# Altium footprint library lib_cui.PcbLib: 4 footprints
Each footprint in its own frame and in the unit in brackets; x right, y up, seen from the top. Pads: shape width x height; smd on the part's side, far side on the other; paste and mask are expansions set on the pad; w line width, h text height; cw(c..) or ccw(c..) is an arc to the next point about the centre after c.
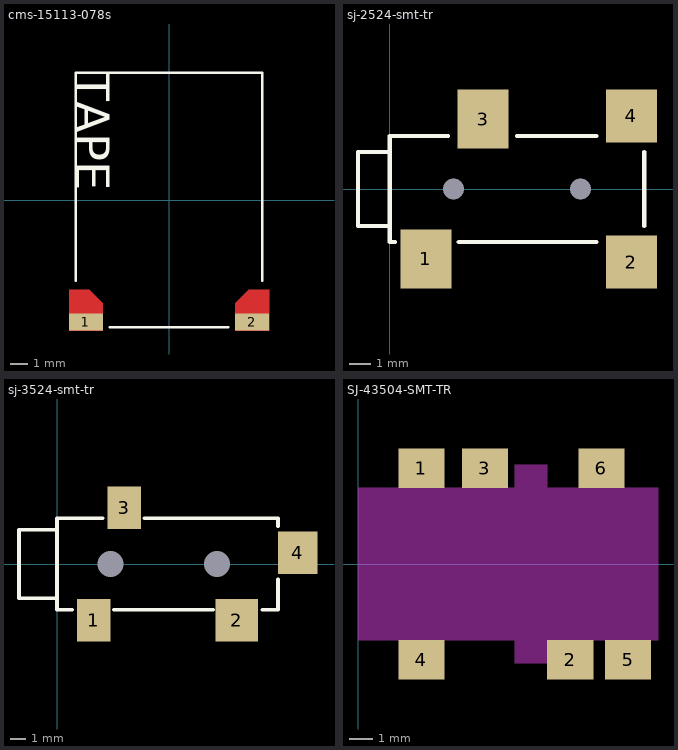
[diagram p0: the footprints below, top view; thin cyan lines are the x and y axes]

## cms-15113-078s [mm]
pads (2):
  rect 2x1 smd: 1(-4.9,-7.2) 2(4.9,-7.2)
Top Layer:
  region: 3.9,-7.7 3.9,-6.1 4.7,-5.3 5.9,-5.3 5.9,-7.7
  region: -3.9,-7.7 -3.9,-6.1 -4.7,-5.3 -5.9,-5.3 -5.9,-7.7
Top Overlay:
  lines w0.152: -5.5,-4.75 -5.5,7.5 5.5,7.5 5.5,-4.75 ; -3.5,-7.5 3.5,-7.5
  text "TAPE" at -5.5,7.5 h2
3D body "CUI_INC_CMS-15113-078S.step": height 3.2, standoff -0.78, extent -5.5,-7.5 5.5,7.5

## sj-2524-smt-tr [mm]
pads (6):
  rect 2.4x2.8 smd: 1(1.7,-3.3) 3(4.4,3.3)
  rect 2.4x2.5 smd: 2(11.4,-3.45) 4(11.4,3.45)
  round 0 hole 1 unplated mask+0.102: MNT(3,0) MNT(9,0)
Top Overlay:
  lines w0.2: 0,-1.75 -1.5,-1.75 -1.5,1.75 0,1.75 ; 0.25,-2.5 0,-2.5 0,2.5 2.75,2.5 ; 3.25,-2.5 9.75,-2.5 ; 6,2.5 9.75,2.5 ; 12,-1.75 12,1.75
3D body "CUI_INC_SJ-2524-SMT-TR.step": height 4.6, standoff -0.7, extent -1.5,-4 12,4

## sj-3524-smt-tr [mm]
pads (6):
  rect 2.2x2.8 smd: 1(2.4,-3.7) 3(4.4,3.7)
  rect 2.8x2.8 smd: 2(11.8,-3.7)
  rect 2.6x2.8 smd: 4(15.8,0.75)
  round 0 hole 1.7 unplated mask+0.102: MNT(3.5,0) MNT(10.5,0)
Top Overlay:
  lines w0.254: 0,-2.25 -2.5,-2.25 -2.5,2.25 0,2.25 ; 1,-3 0,-3 0,3 3,3 ; 3.75,-3 10.25,-3 ; 5.75,3 14.5,3 14.5,2.5 ; 13.5,-3 14.5,-3 14.5,-1
3D body "CUI_INC_SJ-3524-SMT-TR.step": height 5.1, standoff -0.7, extent -2.5,-4.5 16.5,4.5

## SJ-43504-SMT-TR [mm]
pads (6):
  rect 2x1.7 smd: 1(2.75,4.15) 2(9.2,-4.15) 3(5.5,4.15) 4(2.75,-4.15) 5(11.7,-4.15) 6(10.55,4.15)
Keep-Out Layer:
  board cut-out: 0,3.3 6.8,3.3 6.8,4.3 8.2,4.3 8.2,3.3 13,3.3 13,-3.3 8.2,-3.3 8.2,-4.3 6.8,-4.3 6.8,-3.3 0,-3.3
3D body "CUI_INC_SJ-43504-SMT-TR.step": height 1.9, standoff -3.1, extent -2,-4.55 12,4.55